# Altium footprint library TBU.PcbLib: 1 footprints
Each footprint in its own frame and in the unit in brackets; x right, y up, seen from the top. Pads: shape width x height; smd on the part's side, far side on the other; paste and mask are expansions set on the pad; w line width, h text height; cw(c..) or ccw(c..) is an arc to the next point about the centre after c.
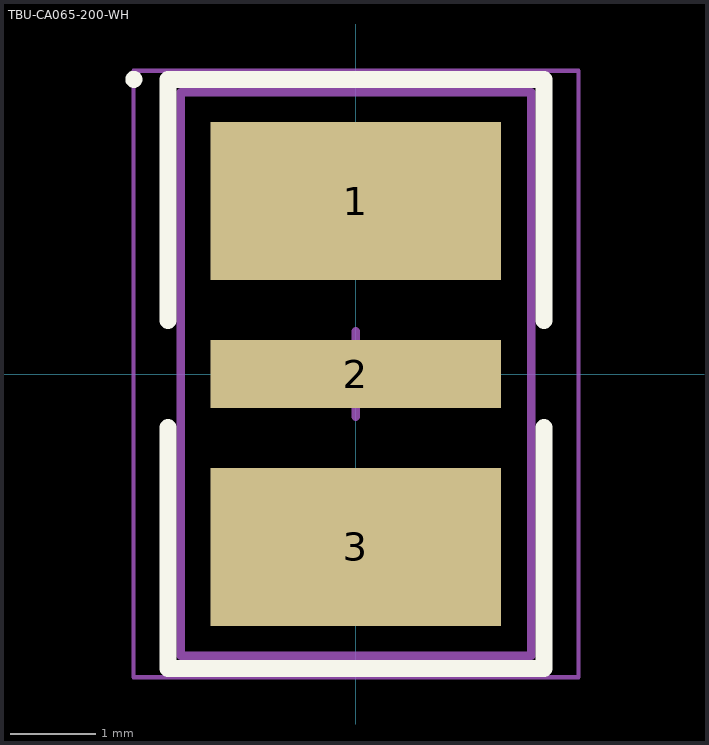
[diagram p0: the footprint, top view; thin cyan lines are the x and y axes]

## TBU-CA065-200-WH [mm] "SON, 3-Leads, Body 6.50x4.00mm, Pitch 1.27mm, IPC Medium Density"
height 1
pads (3):
  rect 3.4x1.85 smd: 1(0,2.025) 3(0,-2.025)
  rect 3.4x0.8 smd: 2(0,0)
Top Overlay:
  circle w0.1: c-2.6,3.45 r0.05
  lines w0.2: -2.2,-0.625 -2.2,-3.45 2.2,-3.45 2.2,-0.625 ; -2.2,0.625 -2.2,3.45 2.2,3.45 2.2,0.625
Top Designator:
  text ".Designator" at -0.4,5.998 h1.2
Mechanical 13:
  circle w0.1: c-1.15,2.4 r0.5
  lines w0.1: -2.05,-3.3 2.05,-3.3 2.05,3.3 -2.05,3.3 -2.05,-3.3
Mechanical 15:
  lines w0.05: -2.605,-3.55 2.605,-3.55 2.605,3.55 -2.605,3.55 -2.605,-3.55
  lines w0.1: -0.5,0 0.5,0 ; 0,-0.5 0,0.5
3D body "SON127P400X100-3N.step": height 1, standoff 0.05, extent -2.05,-3.3 2.05,3.3